# Altium schematic symbol library Capacitor.SchLib: 14 symbols
Pins are listed as number, name and electrical type; pins without a type are passive.

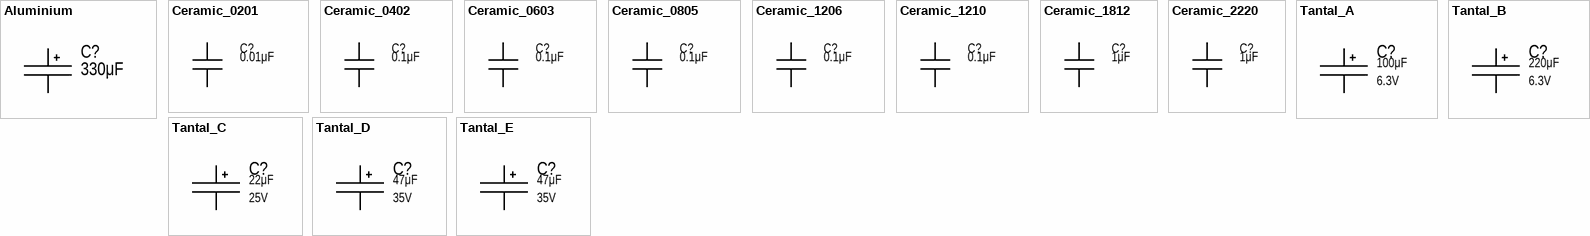
[diagram p0: symbols Aluminium to Tantal_E]

## Aluminium
designator C?  value 330μF
Manufacturer: Wurth; PartNumber: 860080475013
footprint Capacitor_D5C2H11
pins: 1, 2

## Ceramic_0201
designator C?  value 0.01μF
ValueManufacturerPartNumber: Ceramic capacitor, 0.01μF, X7R, ±10%, 16V, 0201; TypeCapacitor: Ceramic capacitor; Tolerance: ±10%; TypeDielectric: X7R; Voltage: 16V; Manufacturer: *; Mfr.Part: *; HelpURL: *; Package: 0201
footprint Capacitor_0201
pins: 1, 2

## Ceramic_0402
designator C?  value 0.1μF
ValueManufacturerPartNumber: Ceramic capacitor, 0.1μF, X7R, ±10%, 16V, 0402; TypeCapacitor: Ceramic capacitor; Tolerance: ±10%; TypeDielectric: X7R; Voltage: 16V; Manufacturer: *; Mfr.Part: *; HelpURL: *; Package: 0402
footprint Capacitor_0402
pins: 1, 2

## Ceramic_0603
designator C?  value 0.1μF
ValueManufacturerPartNumber: Ceramic capacitor, 0.1μF, X7R, ±10%, 16V, 0603; TypeCapacitor: Ceramic capacitor; Tolerance: ±10%; TypeDielectric: X7R; Voltage: 16V; Manufacturer: *; Mfr.Part: *; HelpURL: *; Package: 0603
footprint Capacitor_0603
pins: 1, 2

## Ceramic_0805
designator C?  value 0.1μF
ValueManufacturerPartNumber: Ceramic capacitor, 0.1μF, X7R, ±10%, 16V, 0805; TypeCapacitor: Ceramic capacitor; Tolerance: ±10%; TypeDielectric: X7R; Voltage: 16V; Manufacturer: *; Mfr.Part: *; HelpURL: *; Package: 0805
footprint Capacitor_0805
pins: 1, 2

## Ceramic_1206
designator C?  value 0.1μF
ValueManufacturerPartNumber: Ceramic capacitor, 0.1μF, X7R, ±10%, 50V, 1206; TypeCapacitor: Ceramic capacitor; Tolerance: ±10%; TypeDielectric: X7R; Voltage: 50V; Manufacturer: *; Mfr.Part: *; HelpURL: *; Package: 1206
footprint Capacitor_1206
pins: 1, 2

## Ceramic_1210
designator C?  value 0.1μF
ValueManufacturerPartNumber: Ceramic capacitor, 0.1μF, X7R, ±10%, 50V, 1210; TypeCapacitor: Ceramic capacitor; Tolerance: ±10%; TypeDielectric: X7R; Voltage: 50V; Manufacturer: *; Mfr.Part: *; HelpURL: *; Package: 1210
footprint Capacitor_1210
pins: 1, 2

## Ceramic_1812
designator C?  value 1μF
ValueManufacturerPartNumber: Ceramic capacitor, 1μF, X7R, ±10%, 50V, 1812; TypeCapacitor: Ceramic capacitor; Tolerance: ±10%; TypeDielectric: X7R; Voltage: 50V; Manufacturer: *; Mfr.Part: *; HelpURL: *; Package: 1812
footprint Capacitor_1812
pins: 1, 2

## Ceramic_2220
designator C?  value 1μF
ValueManufacturerPartNumber: Ceramic capacitor, 1μF, X7R, ±10%, 50V, 2220; TypeCapacitor: Ceramic capacitor; Tolerance: ±10%; TypeDielectric: X7R; Voltage: 50V; Manufacturer: *; Mfr.Part: *; HelpURL: *; Package: 2220
footprint Capacitor_2220
pins: 1, 2

## Tantal_A
designator C?  value 100μF  Voltage: 6.3V
ValueManufacturerPartNumber: Tantalum capacitor, 100μF, 6.3V, ±10%, 2Ohm, case A (3216); Impedance: 2Ohm; Tolerance: ±10%; TypeDielectric: X7R; TypeCapacitor: Tantalum capacitor; Manufacturer: *; Mfr.Part: *; Package: case A (3216); HelpURL: *
footprint Capacitor_TANTAL-A
pins: 1, 2

## Tantal_B
designator C?  value 220μF  Voltage: 6.3V
ValueManufacturerPartNumber: Tantalum capacitor, 220μF, 6.3V, ±10%, 1.2Ohm, case B (3528); Impedance: 1.2Ohm; Tolerance: ±10%; TypeDielectric: X7R; TypeCapacitor: Tantalum capacitor; Manufacturer: *; Mfr.Part: *; Package: case B (3528); HelpURL: *
footprint Capacitor_TANTAL-B
pins: 1, 2

## Tantal_C
designator C?  value 22μF  Voltage: 25V
ValueManufacturerPartNumber: Tantalum capacitor, 22μF, 25V, ±10%, 1.1Ohm, case C (6032); Impedance: 1.1Ohm; Tolerance: ±10%; TypeDielectric: X7R; TypeCapacitor: Tantalum capacitor; Manufacturer: *; Mfr.Part: *; Package: case C (6032); HelpURL: *
footprint Capacitor_TANTAL-C
pins: 1, 2

## Tantal_D
designator C?  value 47μF  Voltage: 35V
ValueManufacturerPartNumber: Tantalum capacitor, 47μF, 35V, ±20%, 900mOhm, case D (7343); Impedance: 900mOhm; Tolerance: ±20%; TypeDielectric: X7R; TypeCapacitor: Tantalum capacitor; Manufacturer: *; Mfr.Part: *; Package: case D (7343); HelpURL: *
footprint Capacitor_TANTAL-D
pins: 1, 2

## Tantal_E
designator C?  value 47μF  Voltage: 35V
ValueManufacturerPartNumber: Tantalum capacitor, 47μF, 35V, ±20%, 900mOhm, case D (7343); Impedance: 900mOhm; Tolerance: ±20%; TypeDielectric: X7R; TypeCapacitor: Tantalum capacitor; Manufacturer: *; Mfr.Part: *; Package: case D (7343); HelpURL: *
footprint Capacitor_TANTAL-E
pins: 1, 2